# Altium footprint library TI PCB.PCBLIB: 93 footprints (part 3 of 6)
Each footprint in its own frame and in the unit in brackets; x right, y up, seen from the top. Pads: shape width x height; smd on the part's side, far side on the other; paste and mask are expansions set on the pad; w line width, h text height; cw(c..) or ccw(c..) is an arc to the next point about the centre after c.
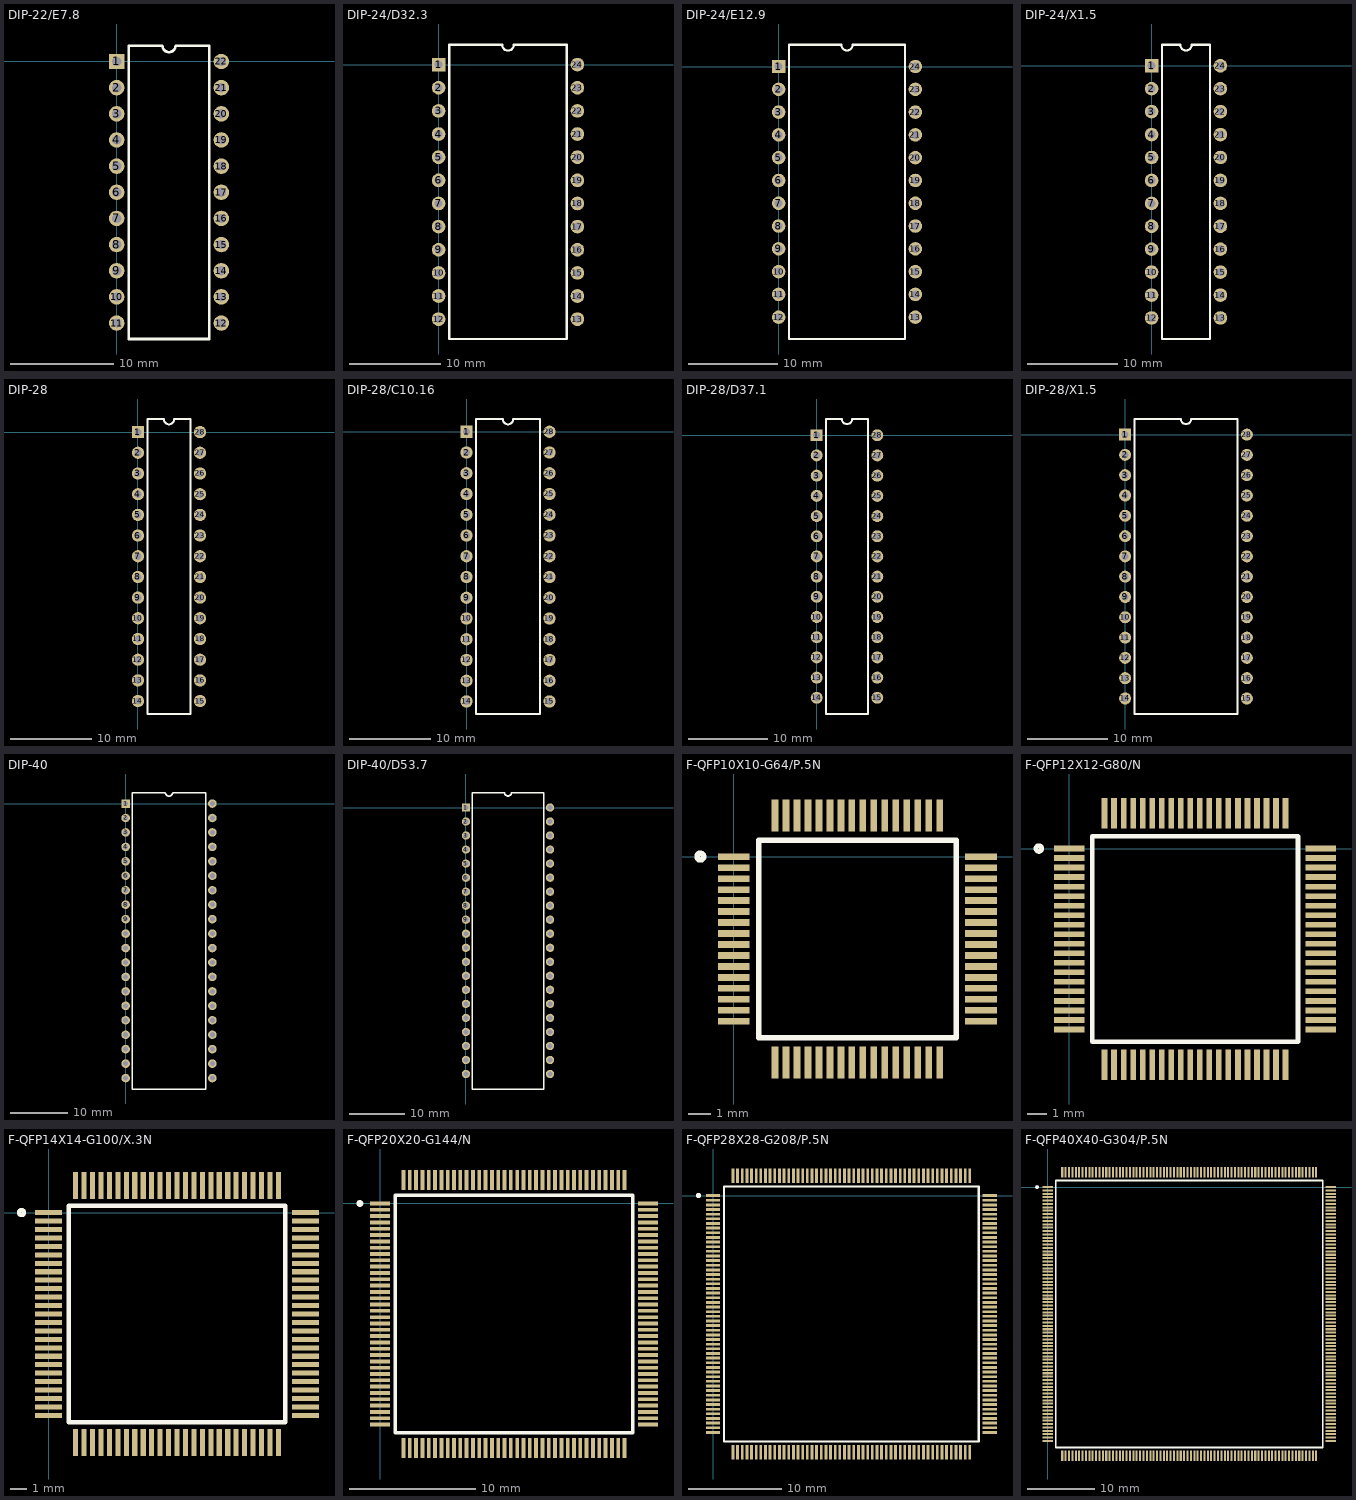
[diagram p2: the footprints below, top view; thin cyan lines are the x and y axes]

## DIP-22/E7.8 [mm]
pads (22):
  rect 1.5x1.5 hole 0.9: 1(0,0)
  round 1.5 hole 0.9: 2(0,-2.54) 3(0,-5.08) 4(0,-7.62) 5(0,-10.16) 6(0,-12.7) 7(0,-15.24) 8(0,-17.78) 9(0,-20.32) 10(0,-22.86) 11(0,-25.4) 12(10.16,-25.4) 13(10.16,-22.86) 14(10.16,-20.32) 15(10.16,-17.78) 16(10.16,-15.24) 17(10.16,-12.7) 18(10.16,-10.16) 19(10.16,-7.62) 20(10.16,-5.08) 21(10.16,-2.54) 22(10.16,0)
Top Overlay:
  lines w0.25: 1.18,-26.95 1.18,1.55 4.445,1.55 ccw(c5.08,1.55) 5.715,1.55 8.98,1.55 8.98,-26.95 1.18,-26.95

## DIP-24/D32.3 [mm]
pads (24):
  rect 1.5x1.5 hole 0.9: 1(0,0)
  round 1.5 hole 0.9: 2(0,-2.54) 3(0,-5.08) 4(0,-7.62) 5(0,-10.16) 6(0,-12.7) 7(0,-15.24) 8(0,-17.78) 9(0,-20.32) 10(0,-22.86) 11(0,-25.4) 12(0,-27.94) 13(15.24,-27.94) 14(15.24,-25.4) 15(15.24,-22.86) 16(15.24,-20.32) 17(15.24,-17.78) 18(15.24,-15.24) 19(15.24,-12.7) 20(15.24,-10.16) 21(15.24,-7.62) 22(15.24,-5.08) 23(15.24,-2.54) 24(15.24,0)
Top Overlay:
  lines w0.25: 1.17,-30.12 1.17,2.18 6.985,2.18 ccw(c7.62,2.18) 8.255,2.18 14.07,2.18 14.07,-30.12 1.17,-30.12

## DIP-24/E12.9 [mm]
pads (24):
  rect 1.5x1.5 hole 0.9: 1(0,0)
  round 1.5 hole 0.9: 2(0,-2.54) 3(0,-5.08) 4(0,-7.62) 5(0,-10.16) 6(0,-12.7) 7(0,-15.24) 8(0,-17.78) 9(0,-20.32) 10(0,-22.86) 11(0,-25.4) 12(0,-27.94) 13(15.24,-27.94) 14(15.24,-25.4) 15(15.24,-22.86) 16(15.24,-20.32) 17(15.24,-17.78) 18(15.24,-15.24) 19(15.24,-12.7) 20(15.24,-10.16) 21(15.24,-7.62) 22(15.24,-5.08) 23(15.24,-2.54) 24(15.24,0)
Top Overlay:
  lines w0.25: 1.17,-30.37 1.17,2.43 6.985,2.43 ccw(c7.62,2.43) 8.255,2.43 14.07,2.43 14.07,-30.37 1.17,-30.37

## DIP-24/X1.5 [mm]
pads (24):
  rect 1.5x1.5 hole 0.9: 1(0,0)
  round 1.5 hole 0.9: 2(0,-2.54) 3(0,-5.08) 4(0,-7.62) 5(0,-10.16) 6(0,-12.7) 7(0,-15.24) 8(0,-17.78) 9(0,-20.32) 10(0,-22.86) 11(0,-25.4) 12(0,-27.94) 13(7.62,-27.94) 14(7.62,-25.4) 15(7.62,-22.86) 16(7.62,-20.32) 17(7.62,-17.78) 18(7.62,-15.24) 19(7.62,-12.7) 20(7.62,-10.16) 21(7.62,-7.62) 22(7.62,-5.08) 23(7.62,-2.54) 24(7.62,0)
Top Overlay:
  lines w0.25: 1.16,-30.27 1.16,2.33 3.175,2.33 ccw(c3.81,2.33) 4.445,2.33 6.46,2.33 6.46,-30.27 1.16,-30.27

## DIP-28 [mm]
pads (28):
  rect 1.5x1.5 hole 0.9: 1(0,0)
  round 1.5 hole 0.9: 2(0,-2.54) 3(0,-5.08) 4(0,-7.62) 5(0,-10.16) 6(0,-12.7) 7(0,-15.24) 8(0,-17.78) 9(0,-20.32) 10(0,-22.86) 11(0,-25.4) 12(0,-27.94) 13(0,-30.48) 14(0,-33.02) 15(7.62,-33.02) 16(7.62,-30.48) 17(7.62,-27.94) 18(7.62,-25.4) 19(7.62,-22.86) 20(7.62,-20.32) 21(7.62,-17.78) 22(7.62,-15.24) 23(7.62,-12.7) 24(7.62,-10.16) 25(7.62,-7.62) 26(7.62,-5.08) 27(7.62,-2.54) 28(7.62,0)
Top Overlay:
  lines w0.25: 1.16,-34.61 1.16,1.59 3.175,1.59 ccw(c3.81,1.59) 4.445,1.59 6.46,1.59 6.46,-34.61 1.16,-34.61

## DIP-28/C10.16 [mm]
pads (28):
  rect 1.5x1.5 hole 0.9: 1(0,0)
  round 1.5 hole 0.9: 2(0,-2.54) 3(0,-5.08) 4(0,-7.62) 5(0,-10.16) 6(0,-12.7) 7(0,-15.24) 8(0,-17.78) 9(0,-20.32) 10(0,-22.86) 11(0,-25.4) 12(0,-27.94) 13(0,-30.48) 14(0,-33.02) 15(10.16,-33.02) 16(10.16,-30.48) 17(10.16,-27.94) 18(10.16,-25.4) 19(10.16,-22.86) 20(10.16,-20.32) 21(10.16,-17.78) 22(10.16,-15.24) 23(10.16,-12.7) 24(10.16,-10.16) 25(10.16,-7.62) 26(10.16,-5.08) 27(10.16,-2.54) 28(10.16,0)
Top Overlay:
  lines w0.25: 1.18,-34.56 1.18,1.54 4.445,1.54 ccw(c5.08,1.54) 5.715,1.54 8.98,1.54 8.98,-34.56 1.18,-34.56

## DIP-28/D37.1 [mm]
pads (28):
  rect 1.5x1.5 hole 0.9: 1(0,0)
  round 1.5 hole 0.9: 2(0,-2.54) 3(0,-5.08) 4(0,-7.62) 5(0,-10.16) 6(0,-12.7) 7(0,-15.24) 8(0,-17.78) 9(0,-20.32) 10(0,-22.86) 11(0,-25.4) 12(0,-27.94) 13(0,-30.48) 14(0,-33.02) 15(7.62,-33.02) 16(7.62,-30.48) 17(7.62,-27.94) 18(7.62,-25.4) 19(7.62,-22.86) 20(7.62,-20.32) 21(7.62,-17.78) 22(7.62,-15.24) 23(7.62,-12.7) 24(7.62,-10.16) 25(7.62,-7.62) 26(7.62,-5.08) 27(7.62,-2.54) 28(7.62,0)
Top Overlay:
  lines w0.25: 1.16,-35.06 1.16,2.04 3.175,2.04 ccw(c3.81,2.04) 4.445,2.04 6.46,2.04 6.46,-35.06 1.16,-35.06

## DIP-28/X1.5 [mm]
pads (28):
  rect 1.5x1.5 hole 0.9: 1(0,0)
  round 1.5 hole 0.9: 2(0,-2.54) 3(0,-5.08) 4(0,-7.62) 5(0,-10.16) 6(0,-12.7) 7(0,-15.24) 8(0,-17.78) 9(0,-20.32) 10(0,-22.86) 11(0,-25.4) 12(0,-27.94) 13(0,-30.48) 14(0,-33.02) 15(15.24,-33.02) 16(15.24,-30.48) 17(15.24,-27.94) 18(15.24,-25.4) 19(15.24,-22.86) 20(15.24,-20.32) 21(15.24,-17.78) 22(15.24,-15.24) 23(15.24,-12.7) 24(15.24,-10.16) 25(15.24,-7.62) 26(15.24,-5.08) 27(15.24,-2.54) 28(15.24,0)
Top Overlay:
  lines w0.25: 1.17,-34.96 1.17,1.94 6.985,1.94 ccw(c7.62,1.94) 8.255,1.94 14.07,1.94 14.07,-34.96 1.17,-34.96

## DIP-40 [mm]
pads (40):
  rect 1.5x1.5 hole 0.9: 1(0,0)
  round 1.5 hole 0.9: 2(0,-2.54) 3(0,-5.08) 4(0,-7.62) 5(0,-10.16) 6(0,-12.7) 7(0,-15.24) 8(0,-17.78) 9(0,-20.32) 10(0,-22.86) 11(0,-25.4) 12(0,-27.94) 13(0,-30.48) 14(0,-33.02) 15(0,-35.56) 16(0,-38.1) 17(0,-40.64) 18(0,-43.18) 19(0,-45.72) 20(0,-48.26) 21(15.24,-48.26) 22(15.24,-45.72) 23(15.24,-43.18) 24(15.24,-40.64) 25(15.24,-38.1) 26(15.24,-35.56) 27(15.24,-33.02) 28(15.24,-30.48) 29(15.24,-27.94) 30(15.24,-25.4) 31(15.24,-22.86) 32(15.24,-20.32) 33(15.24,-17.78) 34(15.24,-15.24) 35(15.24,-12.7) 36(15.24,-10.16) 37(15.24,-7.62) 38(15.24,-5.08) 39(15.24,-2.54) 40(15.24,0)
Top Overlay:
  lines w0.25: 1.17,-50.18 1.17,1.92 6.985,1.92 ccw(c7.62,1.92) 8.255,1.92 14.07,1.92 14.07,-50.18 1.17,-50.18

## DIP-40/D53.7 [mm]
pads (40):
  rect 1.5x1.5 hole 0.9: 1(0,0)
  round 1.5 hole 0.9: 2(0,-2.54) 3(0,-5.08) 4(0,-7.62) 5(0,-10.16) 6(0,-12.7) 7(0,-15.24) 8(0,-17.78) 9(0,-20.32) 10(0,-22.86) 11(0,-25.4) 12(0,-27.94) 13(0,-30.48) 14(0,-33.02) 15(0,-35.56) 16(0,-38.1) 17(0,-40.64) 18(0,-43.18) 19(0,-45.72) 20(0,-48.26) 21(15.24,-48.26) 22(15.24,-45.72) 23(15.24,-43.18) 24(15.24,-40.64) 25(15.24,-38.1) 26(15.24,-35.56) 27(15.24,-33.02) 28(15.24,-30.48) 29(15.24,-27.94) 30(15.24,-25.4) 31(15.24,-22.86) 32(15.24,-20.32) 33(15.24,-17.78) 34(15.24,-15.24) 35(15.24,-12.7) 36(15.24,-10.16) 37(15.24,-7.62) 38(15.24,-5.08) 39(15.24,-2.54) 40(15.24,0)
Top Overlay:
  lines w0.25: 1.17,-50.98 1.17,2.72 6.985,2.72 ccw(c7.62,2.72) 8.255,2.72 14.07,2.72 14.07,-50.98 1.17,-50.98

## F-QFP10X10-G64/P.5N [mm]
pads (64):
  rect 1.45x0.3 smd: 1(0,0) 2(0,-0.5) 3(0,-1) 4(0,-1.5) 5(0,-2) 6(0,-2.5) 7(0,-3) 8(0,-3.5) 9(0,-4) 10(0,-4.5) 11(0,-5) 12(0,-5.5) 13(0,-6) 14(0,-6.5) 15(0,-7) 16(0,-7.5) 33(11.25,-7.5) 34(11.25,-7) 35(11.25,-6.5) 36(11.25,-6) 37(11.25,-5.5) 38(11.25,-5) 39(11.25,-4.5) 40(11.25,-4) 41(11.25,-3.5) 42(11.25,-3) 43(11.25,-2.5) 44(11.25,-2) 45(11.25,-1.5) 46(11.25,-1) 47(11.25,-0.5) 48(11.25,0)
  rect 0.3x1.45 smd: 17(1.875,-9.375) 18(2.375,-9.375) 19(2.875,-9.375) 20(3.375,-9.375) 21(3.875,-9.375) 22(4.375,-9.375) 23(4.875,-9.375) 24(5.375,-9.375) 25(5.875,-9.375) 26(6.375,-9.375) 27(6.875,-9.375) 28(7.375,-9.375) 29(7.875,-9.375) 30(8.375,-9.375) 31(8.875,-9.375) 32(9.375,-9.375) 49(9.375,1.875) 50(8.875,1.875) 51(8.375,1.875) 52(7.875,1.875) 53(7.375,1.875) 54(6.875,1.875) 55(6.375,1.875) 56(5.875,1.875) 57(5.375,1.875) 58(4.875,1.875) 59(4.375,1.875) 60(3.875,1.875) 61(3.375,1.875) 62(2.875,1.875) 63(2.375,1.875) 64(1.875,1.875)
Top Overlay:
  circle w0.25: c-1.525,0 r0.15
  lines w0.25: 1.125,-8.25 1.125,0.75 10.125,0.75 10.125,-8.25 1.125,-8.25

## F-QFP12X12-G80/N [mm]
pads (80):
  rect 1.6x0.3 smd: 1(0,0) 2(0,-0.5) 3(0,-1) 4(0,-1.5) 5(0,-2) 6(0,-2.5) 7(0,-3) 8(0,-3.5) 9(0,-4) 10(0,-4.5) 11(0,-5) 12(0,-5.5) 13(0,-6) 14(0,-6.5) 15(0,-7) 16(0,-7.5) 17(0,-8) 18(0,-8.5) 19(0,-9) 20(0,-9.5) 41(13.2,-9.5) 42(13.2,-9) 43(13.2,-8.5) 44(13.2,-8) 45(13.2,-7.5) 46(13.2,-7) 47(13.2,-6.5) 48(13.2,-6) 49(13.2,-5.5) 50(13.2,-5) 51(13.2,-4.5) 52(13.2,-4) 53(13.2,-3.5) 54(13.2,-3) 55(13.2,-2.5) 56(13.2,-2) 57(13.2,-1.5) 58(13.2,-1) 59(13.2,-0.5) 60(13.2,0)
  rect 0.3x1.6 smd: 21(1.85,-11.35) 22(2.35,-11.35) 23(2.85,-11.35) 24(3.35,-11.35) 25(3.85,-11.35) 26(4.35,-11.35) 27(4.85,-11.35) 28(5.35,-11.35) 29(5.85,-11.35) 30(6.35,-11.35) 31(6.85,-11.35) 32(7.35,-11.35) 33(7.85,-11.35) 34(8.35,-11.35) 35(8.85,-11.35) 36(9.35,-11.35) 37(9.85,-11.35) 38(10.35,-11.35) 39(10.85,-11.35) 40(11.35,-11.35) 61(11.35,1.85) 62(10.85,1.85) 63(10.35,1.85) 64(9.85,1.85) 65(9.35,1.85) 66(8.85,1.85) 67(8.35,1.85) 68(7.85,1.85) 69(7.35,1.85) 70(6.85,1.85) 71(6.35,1.85) 72(5.85,1.85) 73(5.35,1.85) 74(4.85,1.85) 75(4.35,1.85) 76(3.85,1.85) 77(3.35,1.85) 78(2.85,1.85) 79(2.35,1.85) 80(1.85,1.85)
Top Overlay:
  circle w0.25: c-1.6,0 r0.15
  lines w0.25: 1.2,-10.15 1.2,0.65 12,0.65 12,-10.15 1.2,-10.15

## F-QFP14X14-G100/X.3N [mm]
pads (100):
  rect 1.6x0.3 smd: 1(0,0) 2(0,-0.5) 3(0,-1) 4(0,-1.5) 5(0,-2) 6(0,-2.5) 7(0,-3) 8(0,-3.5) 9(0,-4) 10(0,-4.5) 11(0,-5) 12(0,-5.5) 13(0,-6) 14(0,-6.5) 15(0,-7) 16(0,-7.5) 17(0,-8) 18(0,-8.5) 19(0,-9) 20(0,-9.5) 21(0,-10) 22(0,-10.5) 23(0,-11) 24(0,-11.5) 25(0,-12) 51(15.2,-12) 52(15.2,-11.5) 53(15.2,-11) 54(15.2,-10.5) 55(15.2,-10) 56(15.2,-9.5) 57(15.2,-9) 58(15.2,-8.5) 59(15.2,-8) 60(15.2,-7.5) 61(15.2,-7) 62(15.2,-6.5) 63(15.2,-6) 64(15.2,-5.5) 65(15.2,-5) 66(15.2,-4.5) 67(15.2,-4) 68(15.2,-3.5) 69(15.2,-3) 70(15.2,-2.5) 71(15.2,-2) 72(15.2,-1.5) 73(15.2,-1) 74(15.2,-0.5) 75(15.2,0)
  rect 0.3x1.6 smd: 26(1.6,-13.6) 27(2.1,-13.6) 28(2.6,-13.6) 29(3.1,-13.6) 30(3.6,-13.6) 31(4.1,-13.6) 32(4.6,-13.6) 33(5.1,-13.6) 34(5.6,-13.6) 35(6.1,-13.6) 36(6.6,-13.6) 37(7.1,-13.6) 38(7.6,-13.6) 39(8.1,-13.6) 40(8.6,-13.6) 41(9.1,-13.6) 42(9.6,-13.6) 43(10.1,-13.6) 44(10.6,-13.6) 45(11.1,-13.6) 46(11.6,-13.6) 47(12.1,-13.6) 48(12.6,-13.6) 49(13.1,-13.6) 50(13.6,-13.6) 76(13.6,1.6) 77(13.1,1.6) 78(12.6,1.6) 79(12.1,1.6) 80(11.6,1.6) 81(11.1,1.6) 82(10.6,1.6) 83(10.1,1.6) 84(9.6,1.6) 85(9.1,1.6) 86(8.6,1.6) 87(8.1,1.6) 88(7.6,1.6) 89(7.1,1.6) 90(6.6,1.6) 91(6.1,1.6) 92(5.6,1.6) 93(5.1,1.6) 94(4.6,1.6) 95(4.1,1.6) 96(3.6,1.6) 97(3.1,1.6) 98(2.6,1.6) 99(2.1,1.6) 100(1.6,1.6)
Top Overlay:
  circle w0.25: c-1.6,0 r0.15
  lines w0.25: 1.2,-12.4 1.2,0.4 14,0.4 14,-12.4 1.2,-12.4

## F-QFP20X20-G144/N [mm]
pads (144):
  rect 1.6x0.3 smd: 1(0,0) 2(0,-0.5) 3(0,-1) 4(0,-1.5) 5(0,-2) 6(0,-2.5) 7(0,-3) 8(0,-3.5) 9(0,-4) 10(0,-4.5) 11(0,-5) 12(0,-5.5) 13(0,-6) 14(0,-6.5) 15(0,-7) 16(0,-7.5) 17(0,-8) 18(0,-8.5) 19(0,-9) 20(0,-9.5) 21(0,-10) 22(0,-10.5) 23(0,-11) 24(0,-11.5) 25(0,-12) 26(0,-12.5) 27(0,-13) 28(0,-13.5) 29(0,-14) 30(0,-14.5) 31(0,-15) 32(0,-15.5) 33(0,-16) 34(0,-16.5) 35(0,-17) 36(0,-17.5) 73(21.2,-17.5) 74(21.2,-17) 75(21.2,-16.5) 76(21.2,-16) 77(21.2,-15.5) 78(21.2,-15) 79(21.2,-14.5) 80(21.2,-14) 81(21.2,-13.5) 82(21.2,-13) 83(21.2,-12.5) 84(21.2,-12) 85(21.2,-11.5) 86(21.2,-11) 87(21.2,-10.5) 88(21.2,-10) 89(21.2,-9.5) 90(21.2,-9) 91(21.2,-8.5) 92(21.2,-8) 93(21.2,-7.5) 94(21.2,-7) 95(21.2,-6.5) 96(21.2,-6) 97(21.2,-5.5) 98(21.2,-5) 99(21.2,-4.5) 100(21.2,-4) 101(21.2,-3.5) 102(21.2,-3) 103(21.2,-2.5) 104(21.2,-2) 105(21.2,-1.5) 106(21.2,-1) 107(21.2,-0.5) 108(21.2,0)
  rect 0.3x1.6 smd: 37(1.85,-19.35) 38(2.35,-19.35) 39(2.85,-19.35) 40(3.35,-19.35) 41(3.85,-19.35) 42(4.35,-19.35) 43(4.85,-19.35) 44(5.35,-19.35) 45(5.85,-19.35) 46(6.35,-19.35) 47(6.85,-19.35) 48(7.35,-19.35) 49(7.85,-19.35) 50(8.35,-19.35) 51(8.85,-19.35) 52(9.35,-19.35) 53(9.85,-19.35) 54(10.35,-19.35) 55(10.85,-19.35) 56(11.35,-19.35) 57(11.85,-19.35) 58(12.35,-19.35) 59(12.85,-19.35) 60(13.35,-19.35) 61(13.85,-19.35) 62(14.35,-19.35) 63(14.85,-19.35) 64(15.35,-19.35) 65(15.85,-19.35) 66(16.35,-19.35) 67(16.85,-19.35) 68(17.35,-19.35) 69(17.85,-19.35) 70(18.35,-19.35) 71(18.85,-19.35) 72(19.35,-19.35) 109(19.35,1.85) 110(18.85,1.85) 111(18.35,1.85) 112(17.85,1.85) 113(17.35,1.85) 114(16.85,1.85) 115(16.35,1.85) 116(15.85,1.85) 117(15.35,1.85) 118(14.85,1.85) 119(14.35,1.85) 120(13.85,1.85) 121(13.35,1.85) 122(12.85,1.85) 123(12.35,1.85) 124(11.85,1.85) 125(11.35,1.85) 126(10.85,1.85) 127(10.35,1.85) 128(9.85,1.85) 129(9.35,1.85) 130(8.85,1.85) 131(8.35,1.85) 132(7.85,1.85) 133(7.35,1.85) 134(6.85,1.85) 135(6.35,1.85) 136(5.85,1.85) 137(5.35,1.85) 138(4.85,1.85) 139(4.35,1.85) 140(3.85,1.85) 141(3.35,1.85) 142(2.85,1.85) 143(2.35,1.85) 144(1.85,1.85)
Top Overlay:
  circle w0.25: c-1.6,0 r0.15
  lines w0.25: 1.2,-18.15 1.2,0.65 20,0.65 20,-18.15 1.2,-18.15

## F-QFP28X28-G208/P.5N [mm]
pads (208):
  rect 1.55x0.3 smd: 1(0,0) 2(0,-0.5) 3(0,-1) 4(0,-1.5) 5(0,-2) 6(0,-2.5) 7(0,-3) 8(0,-3.5) 9(0,-4) 10(0,-4.5) 11(0,-5) 12(0,-5.5) 13(0,-6) 14(0,-6.5) 15(0,-7) 16(0,-7.5) 17(0,-8) 18(0,-8.5) 19(0,-9) 20(0,-9.5) 21(0,-10) 22(0,-10.5) 23(0,-11) 24(0,-11.5) 25(0,-12) 26(0,-12.5) 27(0,-13) 28(0,-13.5) 29(0,-14) 30(0,-14.5) 31(0,-15) 32(0,-15.5) 33(0,-16) 34(0,-16.5) 35(0,-17) 36(0,-17.5) 37(0,-18) 38(0,-18.5) 39(0,-19) 40(0,-19.5) 41(0,-20) 42(0,-20.5) 43(0,-21) 44(0,-21.5) 45(0,-22) 46(0,-22.5) 47(0,-23) 48(0,-23.5) 49(0,-24) 50(0,-24.5) 51(0,-25) 52(0,-25.5) 105(29.8,-25.5) 106(29.8,-25) 107(29.8,-24.5) 108(29.8,-24) 109(29.8,-23.5) 110(29.8,-23) 111(29.8,-22.5) 112(29.8,-22) 113(29.8,-21.5) 114(29.8,-21) 115(29.8,-20.5) 116(29.8,-20) 117(29.8,-19.5) 118(29.8,-19) 119(29.8,-18.5) 120(29.8,-18) 121(29.8,-17.5) 122(29.8,-17) 123(29.8,-16.5) 124(29.8,-16) 125(29.8,-15.5) 126(29.8,-15) 127(29.8,-14.5) 128(29.8,-14) 129(29.8,-13.5) 130(29.8,-13) 131(29.8,-12.5) 132(29.8,-12) 133(29.8,-11.5) 134(29.8,-11) 135(29.8,-10.5) 136(29.8,-10) 137(29.8,-9.5) 138(29.8,-9) 139(29.8,-8.5) 140(29.8,-8) 141(29.8,-7.5) 142(29.8,-7) 143(29.8,-6.5) 144(29.8,-6) 145(29.8,-5.5) 146(29.8,-5) 147(29.8,-4.5) 148(29.8,-4) 149(29.8,-3.5) 150(29.8,-3) 151(29.8,-2.5) 152(29.8,-2) 153(29.8,-1.5) 154(29.8,-1) 155(29.8,-0.5) 156(29.8,0)
  rect 0.3x1.55 smd: 53(2.15,-27.65) 54(2.65,-27.65) 55(3.15,-27.65) 56(3.65,-27.65) 57(4.15,-27.65) 58(4.65,-27.65) 59(5.15,-27.65) 60(5.65,-27.65) 61(6.15,-27.65) 62(6.65,-27.65) 63(7.15,-27.65) 64(7.65,-27.65) 65(8.15,-27.65) 66(8.65,-27.65) 67(9.15,-27.65) 68(9.65,-27.65) 69(10.15,-27.65) 70(10.65,-27.65) 71(11.15,-27.65) 72(11.65,-27.65) 73(12.15,-27.65) 74(12.65,-27.65) 75(13.15,-27.65) 76(13.65,-27.65) 77(14.15,-27.65) 78(14.65,-27.65) 79(15.15,-27.65) 80(15.65,-27.65) 81(16.15,-27.65) 82(16.65,-27.65) 83(17.15,-27.65) 84(17.65,-27.65) 85(18.15,-27.65) 86(18.65,-27.65) 87(19.15,-27.65) 88(19.65,-27.65) 89(20.15,-27.65) 90(20.65,-27.65) 91(21.15,-27.65) 92(21.65,-27.65) 93(22.15,-27.65) 94(22.65,-27.65) 95(23.15,-27.65) 96(23.65,-27.65) 97(24.15,-27.65) 98(24.65,-27.65) 99(25.15,-27.65) 100(25.65,-27.65) 101(26.15,-27.65) 102(26.65,-27.65) 103(27.15,-27.65) 104(27.65,-27.65) 157(27.65,2.15) 158(27.15,2.15) 159(26.65,2.15) 160(26.15,2.15) 161(25.65,2.15) 162(25.15,2.15) 163(24.65,2.15) 164(24.15,2.15) 165(23.65,2.15) 166(23.15,2.15) 167(22.65,2.15) 168(22.15,2.15) 169(21.65,2.15) 170(21.15,2.15) 171(20.65,2.15) 172(20.15,2.15) 173(19.65,2.15) 174(19.15,2.15) 175(18.65,2.15) 176(18.15,2.15) 177(17.65,2.15) 178(17.15,2.15) 179(16.65,2.15) 180(16.15,2.15) 181(15.65,2.15) 182(15.15,2.15) 183(14.65,2.15) 184(14.15,2.15) 185(13.65,2.15) 186(13.15,2.15) 187(12.65,2.15) 188(12.15,2.15) 189(11.65,2.15) 190(11.15,2.15) 191(10.65,2.15) 192(10.15,2.15) 193(9.65,2.15) 194(9.15,2.15) 195(8.65,2.15) 196(8.15,2.15) 197(7.65,2.15) 198(7.15,2.15) 199(6.65,2.15) 200(6.15,2.15) 201(5.65,2.15) 202(5.15,2.15) 203(4.65,2.15) 204(4.15,2.15) 205(3.65,2.15) 206(3.15,2.15) 207(2.65,2.15) 208(2.15,2.15)
Top Overlay:
  circle w0.25: c-1.575,0 r0.15
  lines w0.25: 1.175,-26.475 1.175,0.975 28.625,0.975 28.625,-26.475 1.175,-26.475

## F-QFP40X40-G304/P.5N [mm]
pads (304):
  rect 1.55x0.3 smd: 1(0,0) 2(0,-0.5) 3(0,-1) 4(0,-1.5) 5(0,-2) 6(0,-2.5) 7(0,-3) 8(0,-3.5) 9(0,-4) 10(0,-4.5) 11(0,-5) 12(0,-5.5) 13(0,-6) 14(0,-6.5) 15(0,-7) 16(0,-7.5) 17(0,-8) 18(0,-8.5) 19(0,-9) 20(0,-9.5) 21(0,-10) 22(0,-10.5) 23(0,-11) 24(0,-11.5) 25(0,-12) 26(0,-12.5) 27(0,-13) 28(0,-13.5) 29(0,-14) 30(0,-14.5) 31(0,-15) 32(0,-15.5) 33(0,-16) 34(0,-16.5) 35(0,-17) 36(0,-17.5) 37(0,-18) 38(0,-18.5) 39(0,-19) 40(0,-19.5) 41(0,-20) 42(0,-20.5) 43(0,-21) 44(0,-21.5) 45(0,-22) 46(0,-22.5) 47(0,-23) 48(0,-23.5) 49(0,-24) 50(0,-24.5) 51(0,-25) 52(0,-25.5) 53(0,-26) 54(0,-26.5) 55(0,-27) 56(0,-27.5) 57(0,-28) 58(0,-28.5) 59(0,-29) 60(0,-29.5) 61(0,-30) 62(0,-30.5) 63(0,-31) 64(0,-31.5) 65(0,-32) 66(0,-32.5) 67(0,-33) 68(0,-33.5) 69(0,-34) 70(0,-34.5) 71(0,-35) 72(0,-35.5) 73(0,-36) 74(0,-36.5) 75(0,-37) 76(0,-37.5) 153(41.8,-37.5) 154(41.8,-37) 155(41.8,-36.5) 156(41.8,-36) 157(41.8,-35.5) 158(41.8,-35) 159(41.8,-34.5) 160(41.8,-34) 161(41.8,-33.5) 162(41.8,-33) 163(41.8,-32.5) 164(41.8,-32) 165(41.8,-31.5) 166(41.8,-31) 167(41.8,-30.5) 168(41.8,-30) 169(41.8,-29.5) 170(41.8,-29) 171(41.8,-28.5) 172(41.8,-28) 173(41.8,-27.5) 174(41.8,-27) 175(41.8,-26.5) 176(41.8,-26) 177(41.8,-25.5) 178(41.8,-25) 179(41.8,-24.5) 180(41.8,-24) 181(41.8,-23.5) 182(41.8,-23) 183(41.8,-22.5) 184(41.8,-22) 185(41.8,-21.5) 186(41.8,-21) 187(41.8,-20.5) 188(41.8,-20) 189(41.8,-19.5) 190(41.8,-19) 191(41.8,-18.5) 192(41.8,-18) 193(41.8,-17.5) 194(41.8,-17) 195(41.8,-16.5) 196(41.8,-16) 197(41.8,-15.5) 198(41.8,-15) 199(41.8,-14.5) 200(41.8,-14) 201(41.8,-13.5) 202(41.8,-13) 203(41.8,-12.5) 204(41.8,-12) 205(41.8,-11.5) 206(41.8,-11) 207(41.8,-10.5) 208(41.8,-10) 209(41.8,-9.5) 210(41.8,-9) 211(41.8,-8.5) 212(41.8,-8) 213(41.8,-7.5) 214(41.8,-7) 215(41.8,-6.5) 216(41.8,-6) 217(41.8,-5.5) 218(41.8,-5) 219(41.8,-4.5) 220(41.8,-4) 221(41.8,-3.5) 222(41.8,-3) 223(41.8,-2.5) 224(41.8,-2) 225(41.8,-1.5) 226(41.8,-1) 227(41.8,-0.5) 228(41.8,0)
  rect 0.3x1.55 smd: 77(2.15,-39.65) 78(2.65,-39.65) 79(3.15,-39.65) 80(3.65,-39.65) 81(4.15,-39.65) 82(4.65,-39.65) 83(5.15,-39.65) 84(5.65,-39.65) 85(6.15,-39.65) 86(6.65,-39.65) 87(7.15,-39.65) 88(7.65,-39.65) 89(8.15,-39.65) 90(8.65,-39.65) 91(9.15,-39.65) 92(9.65,-39.65) 93(10.15,-39.65) 94(10.65,-39.65) 95(11.15,-39.65) 96(11.65,-39.65) 97(12.15,-39.65) 98(12.65,-39.65) 99(13.15,-39.65) 100(13.65,-39.65) 101(14.15,-39.65) 102(14.65,-39.65) 103(15.15,-39.65) 104(15.65,-39.65) 105(16.15,-39.65) 106(16.65,-39.65) 107(17.15,-39.65) 108(17.65,-39.65) 109(18.15,-39.65) 110(18.65,-39.65) 111(19.15,-39.65) 112(19.65,-39.65) 113(20.15,-39.65) 114(20.65,-39.65) 115(21.15,-39.65) 116(21.65,-39.65) 117(22.15,-39.65) 118(22.65,-39.65) 119(23.15,-39.65) 120(23.65,-39.65) 121(24.15,-39.65) 122(24.65,-39.65) 123(25.15,-39.65) 124(25.65,-39.65) 125(26.15,-39.65) 126(26.65,-39.65) 127(27.15,-39.65) 128(27.65,-39.65) 129(28.15,-39.65) 130(28.65,-39.65) 131(29.15,-39.65) 132(29.65,-39.65) 133(30.15,-39.65) 134(30.65,-39.65) 135(31.15,-39.65) 136(31.65,-39.65) 137(32.15,-39.65) 138(32.65,-39.65) 139(33.15,-39.65) 140(33.65,-39.65) 141(34.15,-39.65) 142(34.65,-39.65) 143(35.15,-39.65) 144(35.65,-39.65) 145(36.15,-39.65) 146(36.65,-39.65) 147(37.15,-39.65) 148(37.65,-39.65) 149(38.15,-39.65) 150(38.65,-39.65) 151(39.15,-39.65) 152(39.65,-39.65) 229(39.65,2.15) 230(39.15,2.15) 231(38.65,2.15) 232(38.15,2.15) 233(37.65,2.15) 234(37.15,2.15) 235(36.65,2.15) 236(36.15,2.15) 237(35.65,2.15) 238(35.15,2.15) 239(34.65,2.15) 240(34.15,2.15) 241(33.65,2.15) 242(33.15,2.15) 243(32.65,2.15) 244(32.15,2.15) 245(31.65,2.15) 246(31.15,2.15) 247(30.65,2.15) 248(30.15,2.15) 249(29.65,2.15) 250(29.15,2.15) 251(28.65,2.15) 252(28.15,2.15) 253(27.65,2.15) 254(27.15,2.15) 255(26.65,2.15) 256(26.15,2.15) 257(25.65,2.15) 258(25.15,2.15) 259(24.65,2.15) 260(24.15,2.15) 261(23.65,2.15) 262(23.15,2.15) 263(22.65,2.15) 264(22.15,2.15) 265(21.65,2.15) 266(21.15,2.15) 267(20.65,2.15) 268(20.15,2.15) 269(19.65,2.15) 270(19.15,2.15) 271(18.65,2.15) 272(18.15,2.15) 273(17.65,2.15) 274(17.15,2.15) 275(16.65,2.15) 276(16.15,2.15) 277(15.65,2.15) 278(15.15,2.15) 279(14.65,2.15) 280(14.15,2.15) 281(13.65,2.15) 282(13.15,2.15) 283(12.65,2.15) 284(12.15,2.15) 285(11.65,2.15) 286(11.15,2.15) 287(10.65,2.15) 288(10.15,2.15) 289(9.65,2.15) 290(9.15,2.15) 291(8.65,2.15) 292(8.15,2.15) 293(7.65,2.15) 294(7.15,2.15) 295(6.65,2.15) 296(6.15,2.15) 297(5.65,2.15) 298(5.15,2.15) 299(4.65,2.15) 300(4.15,2.15) 301(3.65,2.15) 302(3.15,2.15) 303(2.65,2.15) 304(2.15,2.15)
Top Overlay:
  circle w0.25: c-1.575,0 r0.15
  lines w0.25: 1.175,-38.475 40.625,-38.475 40.625,0.975 1.175,0.975 1.175,-38.475